# Altium schematic symbol library LTST-C230CKT.SchLib: 1 symbol
Pins are listed as number, name and electrical type; pins without a type are passive.

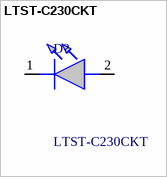
[diagram p0: symbol LTST-C230CKT]

## LTST-C230CKT
designator D?
Standard LEDs - SMD Red Clear 638nm; Manufacturer_Name: Lite-On; Geometry.Height: 1.2mm; Mouser Part Number: 859-LTST-C230CKT; Mouser Price/Stock: https://www.mouser.co.uk/ProductDetail/Lite-On/LTST-C230CKT?qs=Ajas4iFhtucdJAOTHdHdqw%3D%3D; Manufacturer_Part_Number: LTST-C230CKT; Datasheet Link: *
footprint LEDC3216X120N
pins: 1 K, 2 A